# Altium footprint library UKLib_PCB.PcbLib: 40 footprints (part 3 of 3)
Each footprint in its own frame and in the unit in brackets; x right, y up, seen from the top. Pads: shape width x height; smd on the part's side, far side on the other; paste and mask are expansions set on the pad; w line width, h text height; cw(c..) or ccw(c..) is an arc to the next point about the centre after c.
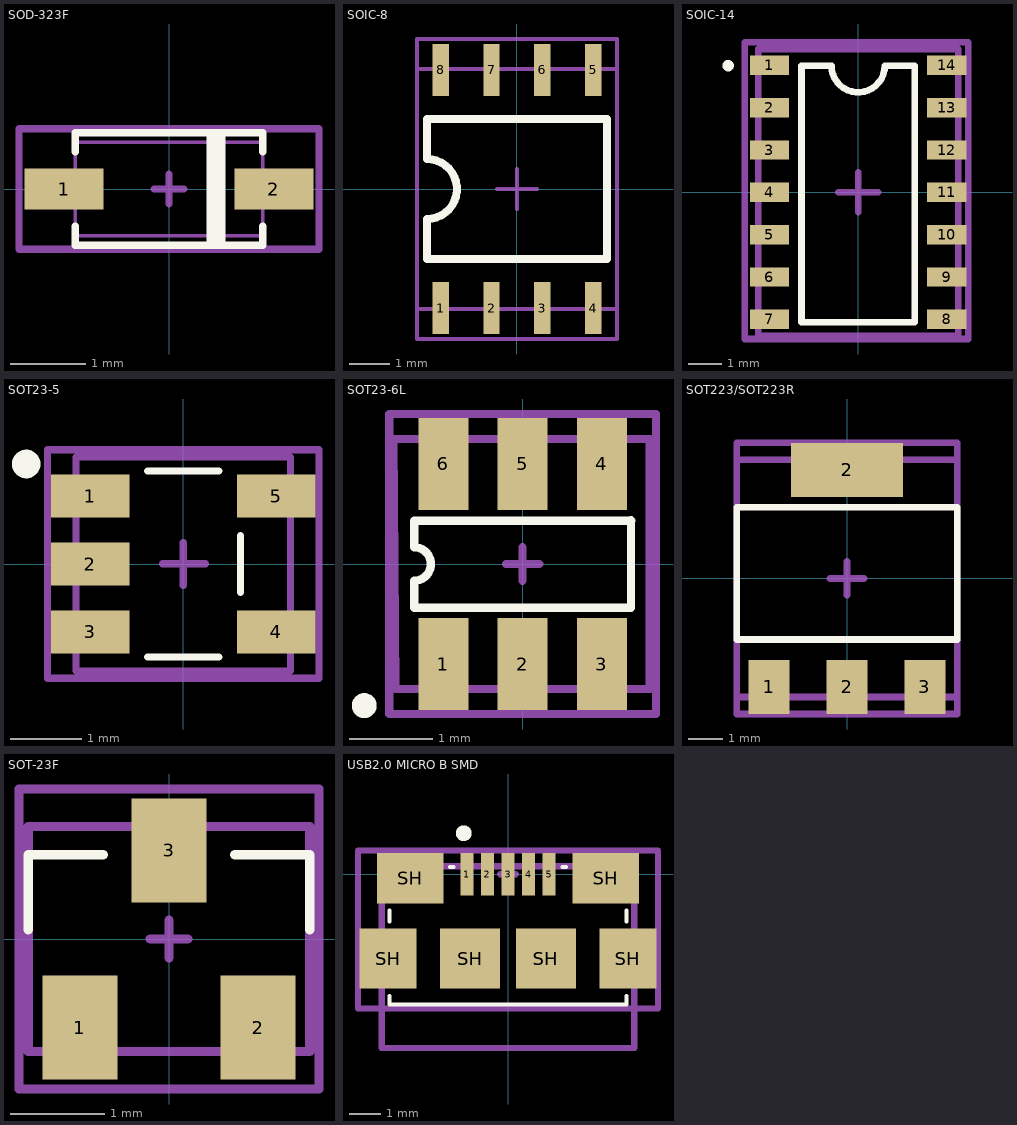
[diagram p2: the footprints below, top view; thin cyan lines are the x and y axes]

## SOD-323F [mm]
pads (2):
  rect 1.05x0.55 smd mask+0.05: 1(-1.4,0) 2(1.4,0)
Top Overlay:
  rectangle: 0.5,-0.75 0.75,0.75
  lines w0.1: -1.25,0.5 -1.25,0.75 1.25,0.75 1.25,0.5 ; -1.25,-0.75 1.25,-0.75 ; -1.25,-0.75 -1.25,-0.5 -1.25,-0.75 ; -1.25,-0.75 1.25,-0.75 ; 1.25,-0.75 1.25,-0.5 1.25,-0.75
Top 3D Body:
  lines w0.05: -1.25,-0.625 -1.25,0.625 1.25,0.625 1.25,-0.625 -1.25,-0.625
Top Component Center:
  lines w0.1: -0.2,0 0.2,0 ; 0,-0.2 0,0.2 ; -2,-0.8 2,-0.8 2,0.8 -2,0.8 -2,-0.3 -2,-0.8
Top Designator:
  lines w0.1: -2,-0.8 2,-0.8 2,0.8 -2,0.8 -2,-0.3 -2,-0.8
  text ".Designator" at -1.85,-0.383 h0.8
3D body "1N4148WS.STEP": height 0.91, standoff 0.01, extent -1.25,-0.625 1.25,0.625

## SOIC-8 [mm]
pads (8):
  rect 0.41x1.3 smd mask+0.05: 1(-1.905,-2.975) 2(-0.635,-2.975) 3(0.635,-2.975) 4(1.905,-2.975) 5(1.905,2.975) 6(0.635,2.975) 7(-0.635,2.975) 8(-1.905,2.975)
Top Overlay:
  lines w0.2: -2.25,-1.75 2.25,-1.75 2.25,1.75 -2.25,1.75 -2.25,0.75 cw(c-2.25,0) -2.25,-0.75 -2.25,-1.75
Top 3D Body:
  lines w0.1: -2.5,-3 2.5,-3 2.5,3 -2.5,3 -2.5,-3
Top Component Center:
  lines w0.1: -0.5,0 0.5,0 ; 0,-0.5 0,0.5 ; -2.5,-3.75 -2.5,3.75 2.5,3.75 2.5,-3.75 -2.5,-3.75
Top Designator:
  lines w0.1: -2.5,-3.75 -2.5,3.75 2.5,3.75 2.5,-3.75 -2.5,-3.75
  text ".Designator" at -1.746,-0.488 h1.52
3D body "SOIC8.STEP": height 1.75, standoff 0, extent -2.45,-3 2.45,3

## SOIC-14 [mm]
pads (14):
  rect 1.18x0.58 smd mask+0.05: 1(-2.66,3.81) 2(-2.66,2.54) 3(-2.66,1.27) 4(-2.66,0) 5(-2.66,-1.27) 6(-2.66,-2.54) 7(-2.66,-3.81) 8(2.66,-3.81) 9(2.66,-2.54) 10(2.66,-1.27) 11(2.66,0) 12(2.66,1.27) 13(2.66,2.54) 14(2.66,3.81)
Top Overlay:
  circle w0.2: c-3.9,3.8 r0.07
  lines w0.2: -1.7,-3.9 0,-3.9 1.7,-3.9 1.7,3.8 0.8,3.8 cw(c0,3.8) -0.8,3.8 -1.7,3.8 -1.7,-3.9
Top 3D Body:
  lines w0.2: -3,-4.3 3,-4.3 3,4.3 -3,4.3 -3,-4.3
Top Component Center:
  lines w0.2: -0.6,0 0.6,0 ; 0,-0.6 0,0.6 ; -3.4,-4.4 -3.4,4.5 3.3,4.5 3.3,-4.4 -3.4,-4.4
Top Designator:
  lines w0.2: -3.4,-4.4 -3.4,4.5 3.3,4.5 3.3,-4.4 -3.4,-4.4
  text ".Designator" at -2.4,-1.233 h0.5
3D body "NCS36000DRG.STEP": height 1.78, standoff -0.02, extent -3,-4.28 3,4.28

## SOT23-5 [mm]
pads (5):
  rect 1.1x0.6 smd mask+0.05: 1(-1.3,0.95) 2(-1.3,0) 3(-1.3,-0.95) 4(1.3,-0.95) 5(1.3,0.95)
Top Overlay:
  circle w0.2: c-2.2,1.4 r0.1
  lines w0.1: -0.5,-1.3 0.5,-1.3 ; -0.5,1.3 0.5,1.3 ; 0.8,-0.4 0.8,0.4
Top 3D Body:
  lines w0.1: -1.5,-1.5 -1.5,1.5 1.5,1.5 1.5,-1.5 -1.5,-1.5
Top Component Center:
  lines w0.1: -0.288,0.003 0.312,0.003 ; 0,-0.3 0,0.3 ; -1.9,-1.6 1.9,-1.6 1.9,1.6 -1.9,1.6 -1.9,-0.3 -1.9,-1.6
Top Designator:
  lines w0.1: -1.9,-1.6 1.9,-1.6 1.9,1.6 -1.9,1.6 -1.9,-0.3 -1.9,-1.6
  text ".Designator" at -1.5,-0.233 h0.5
3D body "OPA314AIDBVR.STEP": height 1.45, standoff 0, extent -1.4,-1.45 1.4,1.45

## SOT23-6L [mm]
pads (6):
  rect 0.6x1.1 smd mask+0.05: 1(-0.95,-1.2) 2(0,-1.2) 3(0.95,-1.2) 4(0.95,1.2) 5(0,1.2) 6(-0.95,1.2)
Top Overlay:
  circle w0.2: c-1.9,-1.7 r0.05
  lines w0.1: -1.3,0.518 -1.3,0.2 cw(c-1.3,0) -1.3,-0.2 -1.3,-0.525 0.175,-0.525 1.3,-0.525 1.3,0 1.3,0.525 ; -1.298,0.52 0.177,0.52 1.302,0.52
Top 3D Body:
  lines w0.1: -1.55,1.5 1.525,1.5 1.525,-1.5 -1.525,-1.5 -1.55,1.5
Top Component Center:
  lines w0.1: -0.2,0 0.2,0 ; 0,-0.2 0,0.2 ; -1.6,-1.8 1.6,-1.8 1.6,1.8 -1.6,1.8 -1.6,-1.8
Top Designator:
  lines w0.1: -1.6,-1.8 -1.6,1.8 1.6,1.8 1.6,-1.8 -1.6,-1.8
  text ".Designator" at -1.3,-0.233 h0.5
3D body "SOT23-6L_STM.step": height 1.45, standoff 0, extent -1.524,-1.499 1.524,1.499

## SOT223/SOT223R [mm]
pads (4):
  rect 1.2x1.6 smd mask+0.05: 1(-2.3,-3.2) 2(0,-3.2) 3(2.3,-3.2)
  rect 3.3x1.6 smd mask+0.05: 2(0,3.2)
Top Overlay:
  lines w0.2: -3.25,-1.8 3.25,-1.8 3.25,2.1 -3.25,2.1 -3.25,-1.8
Top 3D Body:
  lines w0.2: -3.25,-3.5 3.25,-3.5 3.25,3.5 -3.25,3.5 -3.25,-3.5
Top Component Center:
  lines w0.2: -0.5,0 0.5,0 ; 0,-0.5 0,0.5 ; -3.25,-4 -3.25,4 3.25,4 3.25,-4 -3.25,-4
Top Designator:
  lines w0.2: -3.25,-4 -3.25,4 3.25,4 3.25,-4 -3.25,-4
  text ".Designator" at -2.496,-0.238 h1.52
3D body "SOT-223.step": height 1.68, standoff 0, extent -3.25,-3.48 3.25,3.48

## SOT-23F [mm]
pads (3):
  rect 0.8x1.11 smd mask+0.05: 1(-0.95,-0.945) 2(0.95,-0.945) 3(0,0.945)
Top Overlay:
  lines w0.1: -1.5,0.1 -1.5,0.9 -0.7,0.9 ; 0.7,0.9 1.5,0.9 1.5,0.1
Top 3D Body:
  lines w0.1: -1.5,-1.2 1.5,-1.2 1.5,1.2 -1.5,1.2 -1.5,-1.2
Top Component Center:
  lines w0.1: -0.2,0 0.2,0 ; 0,-0.2 0,0.2 ; -1.6,-1.6 -1.6,1.6 1.6,1.6 1.6,-1.6 -1.6,-1.6
Top Designator:
  lines w0.1: -1.6,-1.6 -1.6,1.6 1.6,1.6 1.6,-1.6 -1.6,-1.6
  text ".Designator" at -1.346,-0.338 h1.52
3D body "SOT23F.STEP": height 0.91, standoff 0, extent -1.45,-1.195 1.45,1.205

## USB2.0 MICRO B SMD [mm]
pads (11):
  rect 0.4x1.35 smd mask+0.05: 1(-1.3,0) 2(-0.65,0) 3(0,0) 4(0.65,0) 5(1.3,0)
  rect 1.8x1.9 smd mask+0.05: SH(-3.8,-2.675) SH(3.8,-2.675)
  rect 2.1x1.6 smd mask+0.05: SH(-3.1,-0.125) SH(3.1,-0.125)
  rect 1.9x1.9 smd mask+0.05: SH(-1.2,-2.675) SH(1.2,-2.675)
Top Overlay:
  circle w0.3: c-1.4,1.3 r0.1
  lines w0.127: -3.75,-3.85 -3.75,-4.125 3.75,-4.125 3.75,-3.85 ; -3.75,-1.5 -3.75,-1.15 ; -1.83,0.225 -1.72,0.225 ; 1.72,0.225 1.83,0.225 ; 3.75,-1.5 3.75,-1.15
Top 3D Body:
  lines w0.2: -4,-5.5 -4,0.25 4,0.25 4,-5.5 -4,-5.5
Top Component Center:
  lines w0.2: -0.25,0 0.25,0 ; 0,-0.25 0,0.25 ; -4.75,-4.25 -4.75,-3.75 -4.75,0.75 4.75,0.75 4.75,-4.25 -4.75,-4.25
Top Designator:
  lines w0.2: -4.75,-4.25 -4.75,-3.75 -4.75,0.75 4.75,0.75 4.75,-4.25 -4.75,-4.25
  text ".Designator" at -3.6,-2.333 h0.8
3D body "10118192-0001LF.STEP": height 2.57, standoff -0.23, extent -3.955,-5.396 3.956,0.27